# Altium schematic symbol library ADA4691-4.Schlib: 1 symbol
Pins are listed as number, name and electrical type; pins without a type are passive.

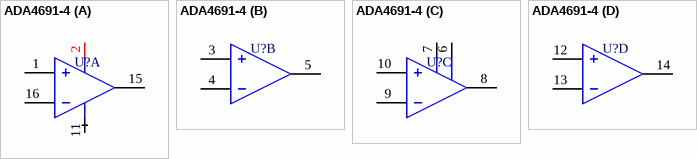
[diagram p0: symbol ADA4691-4]

## ADA4691-4
designator U?
part A pins: 1 +IN A, 2 V+, 11 V-, 15 OUTA, 16 -IN A, 17 PAD
part B pins: 3 +IN B, 4 -IN B, 5 OUTB
part C pins: 6 SD A/B, 7 SD C/D, 8 OUTC, 9 -IN C, 10 +IN C
part D pins: 12 +IN D, 13 -IN D, 14 OUTD